# Altium integrated library Linear Technology Power Management Power-Over-Ethernet (PoE) Interface Controllers.IntLib: 174 symbols (part 2 of 16)
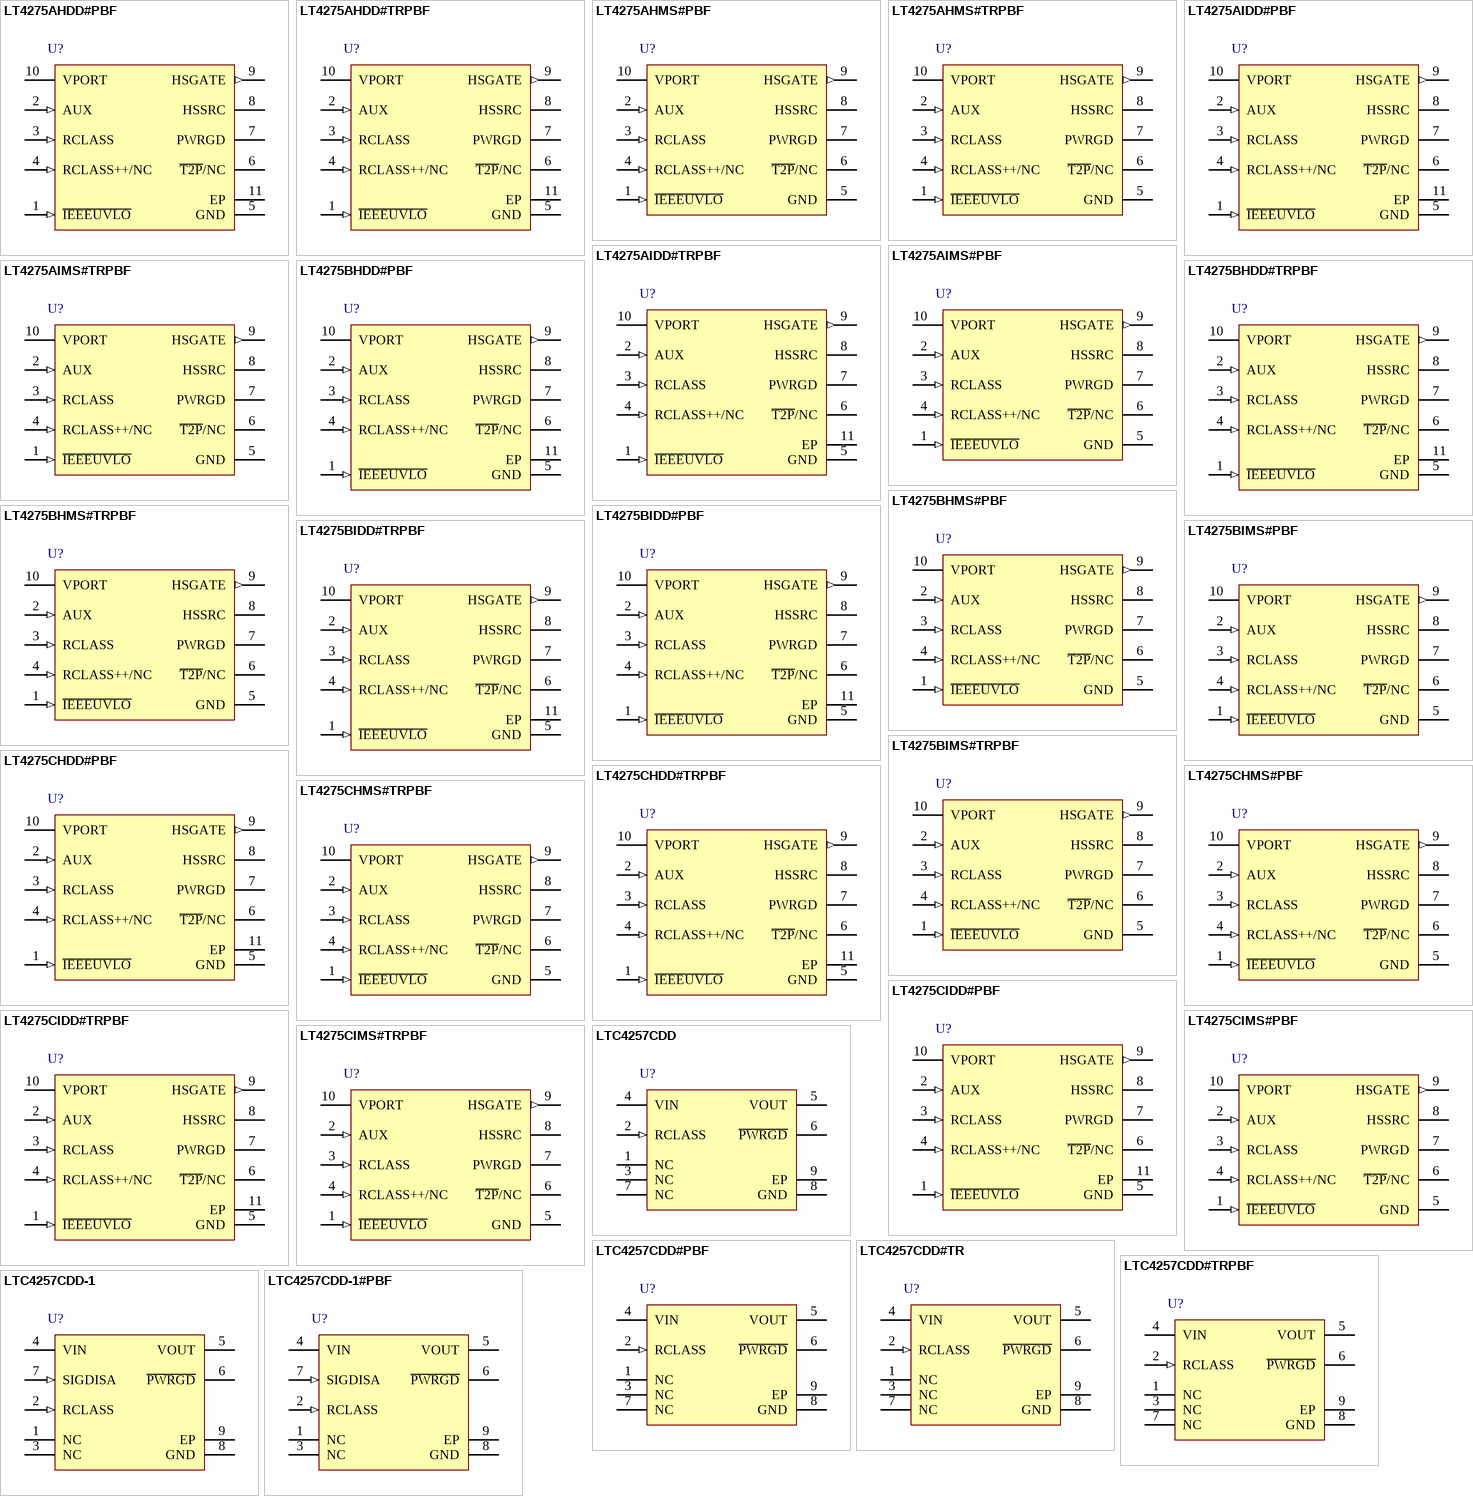
[diagram p9: symbols LT4275AHDD#PBF to LTC4257CDD-1#PBF]

## LT4275CHMS#PBF
designator U?
LTPoE++ / PoE+ / PoE PD Controller, 10-pin SOP (MS-10), -40 to 125 degC, Pb-Free; Manufacturer: Linear Technology; PartNumber: LT4275CHMS#PBF; Channels(#): 1; Extended Temp: I, H; Max Power(W): 90; PoE Type: 1, 2, LTPoE++; PackageVersion: Rev. E, 06/2010; PackageReference: MS-10; PackageDescription: 10-Pin Plastic MSOP, Body 3 x 3 mm, Pitch 0.5 mm; Supplier 1: Digi-Key; Supplier Part Number 1: LT4275CHMS#PBF-ND; Supplier 2: Newark; Supplier Part Number 2: 27W9579; PSE/PD: PD; RoHS: TRUE; Mounting Technology: Surface Mount; ComponentLink1Description: Manufacturer URL; ComponentLink1URL: http://www.linear.com/; ComponentLink2Description: Datasheet; ComponentLink2URL: http://cds.linear.com/docs/en/datasheet/4275f.pdf; ComponentLink3Description: Package Specification; ComponentLink3URL: http://cds.linear.com/docs/en/packaging/05081661_F_MS.pdf
footprint LT-MS-10_N (SOP, 10-Leads, Body 3.1x3.1mm, Pitch 0.5mm, IPC Medium Density)
footprint LT-MS-10_L (SOP, 10-Leads, Body 3.1x3.1mm, Pitch 0.5mm, IPC High Density)
footprint LT-MS-10_M (SOP, 10-Leads, Body 3.1x3.1mm, Pitch 0.5mm, IPC Low Density)
pins: 1 ~{IEEEUVLO} (in) "IEEEUVLO (Pin 1): Hot Swap Turn-on Threshold Level Control. Connect to ground for IEEE compliant turn-on and turn-off (UVLO) voltage thresholds. Leave open for lower turn-on and turn-off voltage thresholds.", 2 AUX (in) "AUX (Pin 2): Auxiliary Sense. Assert AUX via a resistive divider from the auxiliary power input to set the voltage at which the auxiliary supply takes over. Asserting AUX pulls down HSGATE, disconnects the signature (See Datasheet)", 3 RCLASS (in) "RCLASS (Pin 3): Programmable PoE Classification Resistor. See Table 1.", 4 RCLASS++/NC (in) "RCLASS++ (Pin 4, LT4275A Only): Programmable LTPoE++ Classification Resistor. This pin is not connected on the LT4275B/LT4275C. See Table 1.", 5 GND (power) "GND (Pin 5): Ground Pin. Must be soldered to PCB GND.", 6 ~{T2P}/NC (oc) "T\2\P\ (Pin 6, LT4275A/LT4275B Only): PSE Type Indicator, Open-Drain Output. T\2\P\ floats for a 13W PSE. T\2\P\ pulls down for a 25.5W PSE. T\2\P\ pulls down at fT\2\P\ with a 50% (typical) duty cycle to indicate the (See Datasheet)", 7 PWRGD (oc) "PWRGD (Pin 7): Power Good Indicator, Open-Drain Output. Pulls down during VCLASS and inrush.", 8 HSSRC "HSSRC (Pin 8): External Hot Swap MOSFET Source. Connect to source of the external MOSFET.", 9 HSGATE (out) "HSGATE (Pin 9): External Hot Swap MOSFET Gate Control, Output. Connect to gate of the external MOSFET.", 10 VPORT (power) "VPORT (Pin 10): PD interface upper power rail and external Hot Swap MOSFET drain connection."

## LT4275CHMS#TRPBF
designator U?
LTPoE++ / PoE+ / PoE PD Controller, 10-pin SOP (MS-10), -40 to 125 degC, Pb-Free, Tape and Reel; Manufacturer: Linear Technology; PartNumber: LT4275CHMS#TRPBF; Channels(#): 1; Extended Temp: I, H; Max Power(W): 90; PoE Type: 1, 2, LTPoE++; PackageVersion: Rev. E, 06/2010; PackageReference: MS-10; PackageDescription: 10-Pin Plastic MSOP, Body 3 x 3 mm, Pitch 0.5 mm; Supplier 1: Digi-Key; Supplier Part Number 1: LT4275CHMS#TRPBF-ND; Supplier 2: Newark; Supplier Part Number 2: 27W9580; Packing: Tape and Reel; PSE/PD: PD; RoHS: TRUE; Mounting Technology: Surface Mount; ComponentLink1Description: Manufacturer URL; ComponentLink1URL: http://www.linear.com/; ComponentLink2Description: Datasheet; ComponentLink2URL: http://cds.linear.com/docs/en/datasheet/4275f.pdf; ComponentLink3Description: Package Specification; ComponentLink3URL: http://cds.linear.com/docs/en/packaging/05081661_F_MS.pdf
footprint LT-MS-10_N (SOP, 10-Leads, Body 3.1x3.1mm, Pitch 0.5mm, IPC Medium Density)
footprint LT-MS-10_L (SOP, 10-Leads, Body 3.1x3.1mm, Pitch 0.5mm, IPC High Density)
footprint LT-MS-10_M (SOP, 10-Leads, Body 3.1x3.1mm, Pitch 0.5mm, IPC Low Density)
pins: 1 ~{IEEEUVLO} (in) "IEEEUVLO (Pin 1): Hot Swap Turn-on Threshold Level Control. Connect to ground for IEEE compliant turn-on and turn-off (UVLO) voltage thresholds. Leave open for lower turn-on and turn-off voltage thresholds.", 2 AUX (in) "AUX (Pin 2): Auxiliary Sense. Assert AUX via a resistive divider from the auxiliary power input to set the voltage at which the auxiliary supply takes over. Asserting AUX pulls down HSGATE, disconnects the signature (See Datasheet)", 3 RCLASS (in) "RCLASS (Pin 3): Programmable PoE Classification Resistor. See Table 1.", 4 RCLASS++/NC (in) "RCLASS++ (Pin 4, LT4275A Only): Programmable LTPoE++ Classification Resistor. This pin is not connected on the LT4275B/LT4275C. See Table 1.", 5 GND (power) "GND (Pin 5): Ground Pin. Must be soldered to PCB GND.", 6 ~{T2P}/NC (oc) "T\2\P\ (Pin 6, LT4275A/LT4275B Only): PSE Type Indicator, Open-Drain Output. T\2\P\ floats for a 13W PSE. T\2\P\ pulls down for a 25.5W PSE. T\2\P\ pulls down at fT\2\P\ with a 50% (typical) duty cycle to indicate the (See Datasheet)", 7 PWRGD (oc) "PWRGD (Pin 7): Power Good Indicator, Open-Drain Output. Pulls down during VCLASS and inrush.", 8 HSSRC "HSSRC (Pin 8): External Hot Swap MOSFET Source. Connect to source of the external MOSFET.", 9 HSGATE (out) "HSGATE (Pin 9): External Hot Swap MOSFET Gate Control, Output. Connect to gate of the external MOSFET.", 10 VPORT (power) "VPORT (Pin 10): PD interface upper power rail and external Hot Swap MOSFET drain connection."

## LT4275CIDD#PBF
designator U?
LTPoE++ / PoE+ / PoE PD Controller, 10-pin SON (DD-10), -40 to 85 degC, Pb-Free; Manufacturer: Linear Technology; PartNumber: LT4275CIDD#PBF; Channels(#): 1; Extended Temp: I, H; Max Power(W): 90; PoE Type: 1, 2, LTPoE++; PackageVersion: Rev. C, 06/2010; PackageReference: DD-10; PackageDescription: 10-Pin Plastic DFN, Body 3 x 3 mm, Pitch 0.5 mm; Supplier 1: Digi-Key; Supplier Part Number 1: LT4275CIDD#PBF-ND; Supplier 2: Newark; Supplier Part Number 2: 27W9581; PSE/PD: PD; RoHS: TRUE; Mounting Technology: Surface Mount; Code_JEDEC: MO-229; ComponentLink1Description: Manufacturer URL; ComponentLink1URL: http://www.linear.com/; ComponentLink2Description: Datasheet; ComponentLink2URL: http://cds.linear.com/docs/en/datasheet/4275f.pdf; ComponentLink3Description: Package Specification; ComponentLink3URL: http://cds.linear.com/docs/en/packaging/DFN_10_05-08-1699.pdf
footprint LT-DD-10_V (SON, 10-Leads, Body 3x3mm, Pitch 0.5mm, Thermal Pad 2.38x1.65mm)
pins: 1 ~{IEEEUVLO} (in) "I\E\E\E\U\V\L\O\ (Pin 1): Hot Swap Turn-on Threshold Level Control. Connect to ground for IEEE compliant turn-on and turn-off (UVLO) voltage thresholds. Leave open for lower turn-on and turn-off voltage thresholds.", 2 AUX (in) "AUX (Pin 2): Auxiliary Sense. Assert AUX via a resistive divider from the auxiliary power input to set the voltage at which the auxiliary supply takes over. Asserting AUX pulls down HSGATE, disconnects the signature (See Datasheet)", 3 RCLASS (in) "RCLASS (Pin 3): Programmable PoE Classification Resistor. See Table 1.", 4 RCLASS++/NC (in) "RCLASS++ (Pin 4, LT4275A Only): Programmable LTPoE++ Classification Resistor. This pin is not connected on the LT4275B/LT4275C. See Table 1.", 5 GND (power) "GND (Pin 5): Ground Pin. Must be soldered to PCB GND.", 6 ~{T2P}/NC (oc) "T\2\P\ (Pin 6, LT4275A/LT4275B Only): PSE Type Indicator, Open-Drain Output. T\2\P\ floats for a 13W PSE. T\2\P\ pulls down for a 25.5W PSE. T\2\P\ pulls down at fT\2\P\ with a 50% (typical) duty cycle to indicate the (See Datasheet)", 7 PWRGD (oc) "PWRGD (Pin 7): Power Good Indicator, Open-Drain Output. Pulls down during VCLASS and inrush.", 8 HSSRC "HSSRC (Pin 8): External Hot Swap MOSFET Source. Connect to source of the external MOSFET.", 9 HSGATE (out) "HSGATE (Pin 9): External Hot Swap MOSFET Gate Control, Output. Connect to gate of the external MOSFET.", 10 VPORT (power) "VPORT (Pin 10): PD interface upper power rail and external Hot Swap MOSFET drain connection.", 11 EP (power) "Exposed Pad (Pin 11, DFN Package Only): GND. Must be soldered to PCB GND."

## LT4275CIDD#TRPBF
designator U?
LTPoE++ / PoE+ / PoE PD Controller, 10-pin SON (DD-10), -40 to 85 degC, Pb-Free, Tape and Reel; Manufacturer: Linear Technology; PartNumber: LT4275CIDD#TRPBF; Channels(#): 1; Extended Temp: I, H; Max Power(W): 90; PoE Type: 1, 2, LTPoE++; PackageVersion: Rev. C, 06/2010; PackageReference: DD-10; PackageDescription: 10-Pin Plastic DFN, Body 3 x 3 mm, Pitch 0.5 mm; Supplier 1: Digi-Key; Supplier Part Number 1: LT4275CIDD#TRPBF-ND; Supplier 2: Newark; Supplier Part Number 2: 27W9582; Packing: Tape and Reel; PSE/PD: PD; RoHS: TRUE; Mounting Technology: Surface Mount; Code_JEDEC: MO-229; ComponentLink1Description: Manufacturer URL; ComponentLink1URL: http://www.linear.com/; ComponentLink2Description: Datasheet; ComponentLink2URL: http://cds.linear.com/docs/en/datasheet/4275f.pdf; ComponentLink3Description: Package Specification; ComponentLink3URL: http://cds.linear.com/docs/en/packaging/DFN_10_05-08-1699.pdf
footprint LT-DD-10_V (SON, 10-Leads, Body 3x3mm, Pitch 0.5mm, Thermal Pad 2.38x1.65mm)
pins: 1 ~{IEEEUVLO} (in) "I\E\E\E\U\V\L\O\ (Pin 1): Hot Swap Turn-on Threshold Level Control. Connect to ground for IEEE compliant turn-on and turn-off (UVLO) voltage thresholds. Leave open for lower turn-on and turn-off voltage thresholds.", 2 AUX (in) "AUX (Pin 2): Auxiliary Sense. Assert AUX via a resistive divider from the auxiliary power input to set the voltage at which the auxiliary supply takes over. Asserting AUX pulls down HSGATE, disconnects the signature (See Datasheet)", 3 RCLASS (in) "RCLASS (Pin 3): Programmable PoE Classification Resistor. See Table 1.", 4 RCLASS++/NC (in) "RCLASS++ (Pin 4, LT4275A Only): Programmable LTPoE++ Classification Resistor. This pin is not connected on the LT4275B/LT4275C. See Table 1.", 5 GND (power) "GND (Pin 5): Ground Pin. Must be soldered to PCB GND.", 6 ~{T2P}/NC (oc) "T\2\P\ (Pin 6, LT4275A/LT4275B Only): PSE Type Indicator, Open-Drain Output. T\2\P\ floats for a 13W PSE. T\2\P\ pulls down for a 25.5W PSE. T\2\P\ pulls down at fT\2\P\ with a 50% (typical) duty cycle to indicate the (See Datasheet)", 7 PWRGD (oc) "PWRGD (Pin 7): Power Good Indicator, Open-Drain Output. Pulls down during VCLASS and inrush.", 8 HSSRC "HSSRC (Pin 8): External Hot Swap MOSFET Source. Connect to source of the external MOSFET.", 9 HSGATE (out) "HSGATE (Pin 9): External Hot Swap MOSFET Gate Control, Output. Connect to gate of the external MOSFET.", 10 VPORT (power) "VPORT (Pin 10): PD interface upper power rail and external Hot Swap MOSFET drain connection.", 11 EP (power) "Exposed Pad (Pin 11, DFN Package Only): GND. Must be soldered to PCB GND."

## LT4275CIMS#PBF
designator U?
LTPoE++ / PoE+ / PoE PD Controller, 10-pin SOP (MS-10), -40 to 85 degC, Pb-Free; Manufacturer: Linear Technology; PartNumber: LT4275CIMS#PBF; Channels(#): 1; Extended Temp: I, H; Max Power(W): 90; PoE Type: 1, 2, LTPoE++; PackageVersion: Rev. E, 06/2010; PackageReference: MS-10; PackageDescription: 10-Pin Plastic MSOP, Body 3 x 3 mm, Pitch 0.5 mm; Supplier 1: Digi-Key; Supplier Part Number 1: LT4275CIMS#PBF-ND; Supplier 2: Newark; Supplier Part Number 2: 27W9583; PSE/PD: PD; RoHS: TRUE; Mounting Technology: Surface Mount; ComponentLink1Description: Manufacturer URL; ComponentLink1URL: http://www.linear.com/; ComponentLink2Description: Datasheet; ComponentLink2URL: http://cds.linear.com/docs/en/datasheet/4275f.pdf; ComponentLink3Description: Package Specification; ComponentLink3URL: http://cds.linear.com/docs/en/packaging/05081661_F_MS.pdf
footprint LT-MS-10_N (SOP, 10-Leads, Body 3.1x3.1mm, Pitch 0.5mm, IPC Medium Density)
footprint LT-MS-10_L (SOP, 10-Leads, Body 3.1x3.1mm, Pitch 0.5mm, IPC High Density)
footprint LT-MS-10_M (SOP, 10-Leads, Body 3.1x3.1mm, Pitch 0.5mm, IPC Low Density)
pins: 1 ~{IEEEUVLO} (in) "IEEEUVLO (Pin 1): Hot Swap Turn-on Threshold Level Control. Connect to ground for IEEE compliant turn-on and turn-off (UVLO) voltage thresholds. Leave open for lower turn-on and turn-off voltage thresholds.", 2 AUX (in) "AUX (Pin 2): Auxiliary Sense. Assert AUX via a resistive divider from the auxiliary power input to set the voltage at which the auxiliary supply takes over. Asserting AUX pulls down HSGATE, disconnects the signature (See Datasheet)", 3 RCLASS (in) "RCLASS (Pin 3): Programmable PoE Classification Resistor. See Table 1.", 4 RCLASS++/NC (in) "RCLASS++ (Pin 4, LT4275A Only): Programmable LTPoE++ Classification Resistor. This pin is not connected on the LT4275B/LT4275C. See Table 1.", 5 GND (power) "GND (Pin 5): Ground Pin. Must be soldered to PCB GND.", 6 ~{T2P}/NC (oc) "T\2\P\ (Pin 6, LT4275A/LT4275B Only): PSE Type Indicator, Open-Drain Output. T\2\P\ floats for a 13W PSE. T\2\P\ pulls down for a 25.5W PSE. T\2\P\ pulls down at fT\2\P\ with a 50% (typical) duty cycle to indicate the (See Datasheet)", 7 PWRGD (oc) "PWRGD (Pin 7): Power Good Indicator, Open-Drain Output. Pulls down during VCLASS and inrush.", 8 HSSRC "HSSRC (Pin 8): External Hot Swap MOSFET Source. Connect to source of the external MOSFET.", 9 HSGATE (out) "HSGATE (Pin 9): External Hot Swap MOSFET Gate Control, Output. Connect to gate of the external MOSFET.", 10 VPORT (power) "VPORT (Pin 10): PD interface upper power rail and external Hot Swap MOSFET drain connection."

## LT4275CIMS#TRPBF
designator U?
LTPoE++ / PoE+ / PoE PD Controller, 10-pin SOP (MS-10), -40 to 85 degC, Pb-Free, Tape and Reel; Manufacturer: Linear Technology; PartNumber: LT4275CIMS#TRPBF; Channels(#): 1; Extended Temp: I, H; Max Power(W): 90; PoE Type: 1, 2, LTPoE++; PackageVersion: Rev. E, 06/2010; PackageReference: MS-10; PackageDescription: 10-Pin Plastic MSOP, Body 3 x 3 mm, Pitch 0.5 mm; Supplier 1: Digi-Key; Supplier Part Number 1: LT4275CIMS#TRPBF-ND; Supplier 2: Newark; Supplier Part Number 2: 27W9584; Packing: Tape and Reel; PSE/PD: PD; RoHS: TRUE; Mounting Technology: Surface Mount; ComponentLink1Description: Manufacturer URL; ComponentLink1URL: http://www.linear.com/; ComponentLink2Description: Datasheet; ComponentLink2URL: http://cds.linear.com/docs/en/datasheet/4275f.pdf; ComponentLink3Description: Package Specification; ComponentLink3URL: http://cds.linear.com/docs/en/packaging/05081661_F_MS.pdf
footprint LT-MS-10_N (SOP, 10-Leads, Body 3.1x3.1mm, Pitch 0.5mm, IPC Medium Density)
footprint LT-MS-10_L (SOP, 10-Leads, Body 3.1x3.1mm, Pitch 0.5mm, IPC High Density)
footprint LT-MS-10_M (SOP, 10-Leads, Body 3.1x3.1mm, Pitch 0.5mm, IPC Low Density)
pins: 1 ~{IEEEUVLO} (in) "IEEEUVLO (Pin 1): Hot Swap Turn-on Threshold Level Control. Connect to ground for IEEE compliant turn-on and turn-off (UVLO) voltage thresholds. Leave open for lower turn-on and turn-off voltage thresholds.", 2 AUX (in) "AUX (Pin 2): Auxiliary Sense. Assert AUX via a resistive divider from the auxiliary power input to set the voltage at which the auxiliary supply takes over. Asserting AUX pulls down HSGATE, disconnects the signature (See Datasheet)", 3 RCLASS (in) "RCLASS (Pin 3): Programmable PoE Classification Resistor. See Table 1.", 4 RCLASS++/NC (in) "RCLASS++ (Pin 4, LT4275A Only): Programmable LTPoE++ Classification Resistor. This pin is not connected on the LT4275B/LT4275C. See Table 1.", 5 GND (power) "GND (Pin 5): Ground Pin. Must be soldered to PCB GND.", 6 ~{T2P}/NC (oc) "T\2\P\ (Pin 6, LT4275A/LT4275B Only): PSE Type Indicator, Open-Drain Output. T\2\P\ floats for a 13W PSE. T\2\P\ pulls down for a 25.5W PSE. T\2\P\ pulls down at fT\2\P\ with a 50% (typical) duty cycle to indicate the (See Datasheet)", 7 PWRGD (oc) "PWRGD (Pin 7): Power Good Indicator, Open-Drain Output. Pulls down during VCLASS and inrush.", 8 HSSRC "HSSRC (Pin 8): External Hot Swap MOSFET Source. Connect to source of the external MOSFET.", 9 HSGATE (out) "HSGATE (Pin 9): External Hot Swap MOSFET Gate Control, Output. Connect to gate of the external MOSFET.", 10 VPORT (power) "VPORT (Pin 10): PD interface upper power rail and external Hot Swap MOSFET drain connection."

## LTC4257CDD
designator U?
IEEE 802.3af PD Power Over Ethernet Interface Controller, 8-pin SON (DD-8), 0 to 70 degC; Manufacturer: Linear Technology; PartNumber: LTC4257CDD; Channels(#): 1; Extended Temp: C, I; I2C Interface: no; Max Power(W): 13; DatasheetVersion: Rev. B; PackageVersion: Jun-10; PackageReference: DD-8; PackageDescription: 8-Pin Plastic DFN, Body 3 x 3 mm, Pitch 0.5 mm; Supplier 1: Digi-Key; Supplier Part Number 1: LTC4257CDD-ND; PoE Type: 1; PSE/PD: PD; RoHS: FALSE; Mounting Technology: Surface Mount; Code_JEDEC: MO-229; ComponentLink1Description: Manufacturer URL; ComponentLink1URL: http://www.linear.com/; ComponentLink2Description: Datasheet; ComponentLink2URL: http://cds.linear.com/docs/en/datasheet/4257fb.pdf; ComponentLink3Description: Package Specification; ComponentLink3URL: http://cds.linear.com/docs/en/packaging/DFN_8_05-08-1698.pdf
footprint LT-DD-8_V (SON, 8-Leads, Body 3x3mm, Pitch 0.5mm, Thermal Pad 1.65x2.38 mm)
pins: 1 NC "No Connect.", 2 RCLASS (in) "External Class Select Input. Used to set the current the LTC4257 maintains during classification. Connect a resistor between RCLASS and VIN (see Table 2).", 3 NC "No Connect.", 4 VIN (power) "Power Input. Tie to system -48V through the input diode bridge.", 5 VOUT (hiz) "Power Output. Supplies -48V to the PD load through an internal power MOSFET that limits input current. VOUT is high impedance until the input voltage rises above the turn-on UVLO threshold. Above the UVLO threshold the (See Datasheet)", 6 ~{PWRGD} (hiz) "Power Good Output, Open-Drain. Signals that the LTC4257 MOSFET is fully on. Low impedance indicates power is good. P\W\R\G\D\ is high impedance during detection, classification and in the event of a thermal overload. (See Datasheet)", 7 NC "No Connect.", 8 GND (power) "Ground. Tie to system ground and to power return through the input diode bridge.", 9 EP

## LTC4257CDD#PBF
designator U?
IEEE 802.3af PD Power Over Ethernet Interface Controller, 8-pin SON (DD-8), 0 to 70 degC, Pb-Free; Manufacturer: Linear Technology; PartNumber: LTC4257CDD#PBF; Channels(#): 1; Extended Temp: C, I; I2C Interface: no; Max Power(W): 13; DatasheetVersion: Rev. B; PackageVersion: Jun-10; PackageReference: DD-8; PackageDescription: 8-Pin Plastic DFN, Body 3 x 3 mm, Pitch 0.5 mm; Supplier 1: Digi-Key; Supplier Part Number 1: LTC4257CDD#PBF-ND; PoE Type: 1; PSE/PD: PD; RoHS: TRUE; Mounting Technology: Surface Mount; Code_JEDEC: MO-229; ComponentLink1Description: Manufacturer URL; ComponentLink1URL: http://www.linear.com/; ComponentLink2Description: Datasheet; ComponentLink2URL: http://cds.linear.com/docs/en/datasheet/4257fb.pdf; ComponentLink3Description: Package Specification; ComponentLink3URL: http://cds.linear.com/docs/en/packaging/DFN_8_05-08-1698.pdf
footprint LT-DD-8_V (SON, 8-Leads, Body 3x3mm, Pitch 0.5mm, Thermal Pad 1.65x2.38 mm)
pins: 1 NC "No Connect.", 2 RCLASS (in) "External Class Select Input. Used to set the current the LTC4257 maintains during classification. Connect a resistor between RCLASS and VIN (see Table 2).", 3 NC "No Connect.", 4 VIN (power) "Power Input. Tie to system -48V through the input diode bridge.", 5 VOUT (hiz) "Power Output. Supplies -48V to the PD load through an internal power MOSFET that limits input current. VOUT is high impedance until the input voltage rises above the turn-on UVLO threshold. Above the UVLO threshold the (See Datasheet)", 6 ~{PWRGD} (hiz) "Power Good Output, Open-Drain. Signals that the LTC4257 MOSFET is fully on. Low impedance indicates power is good. P\W\R\G\D\ is high impedance during detection, classification and in the event of a thermal overload. (See Datasheet)", 7 NC "No Connect.", 8 GND (power) "Ground. Tie to system ground and to power return through the input diode bridge.", 9 EP

## LTC4257CDD#TR
designator U?
IEEE 802.3af PD Power Over Ethernet Interface Controller, 8-pin SON (DD-8), 0 to 70 degC, Tape and Reel; Manufacturer: Linear Technology; PartNumber: LTC4257CDD#TR; Channels(#): 1; Extended Temp: C, I; I2C Interface: no; Max Power(W): 13; DatasheetVersion: Rev. B; PackageVersion: Jun-10; PackageReference: DD-8; PackageDescription: 8-Pin Plastic DFN, Body 3 x 3 mm, Pitch 0.5 mm; Supplier 1: Digi-Key; Supplier Part Number 1: LTC4257CDD#TR-ND; Packing: Tape and Reel; PoE Type: 1; PSE/PD: PD; RoHS: FALSE; Mounting Technology: Surface Mount; Code_JEDEC: MO-229; ComponentLink1Description: Manufacturer URL; ComponentLink1URL: http://www.linear.com/; ComponentLink2Description: Datasheet; ComponentLink2URL: http://cds.linear.com/docs/en/datasheet/4257fb.pdf; ComponentLink3Description: Package Specification; ComponentLink3URL: http://cds.linear.com/docs/en/packaging/DFN_8_05-08-1698.pdf
footprint LT-DD-8_V (SON, 8-Leads, Body 3x3mm, Pitch 0.5mm, Thermal Pad 1.65x2.38 mm)
pins: 1 NC "No Connect.", 2 RCLASS (in) "External Class Select Input. Used to set the current the LTC4257 maintains during classification. Connect a resistor between RCLASS and VIN (see Table 2).", 3 NC "No Connect.", 4 VIN (power) "Power Input. Tie to system -48V through the input diode bridge.", 5 VOUT (hiz) "Power Output. Supplies -48V to the PD load through an internal power MOSFET that limits input current. VOUT is high impedance until the input voltage rises above the turn-on UVLO threshold. Above the UVLO threshold the (See Datasheet)", 6 ~{PWRGD} (hiz) "Power Good Output, Open-Drain. Signals that the LTC4257 MOSFET is fully on. Low impedance indicates power is good. P\W\R\G\D\ is high impedance during detection, classification and in the event of a thermal overload. (See Datasheet)", 7 NC "No Connect.", 8 GND (power) "Ground. Tie to system ground and to power return through the input diode bridge.", 9 EP

## LTC4257CDD#TRPBF
designator U?
IEEE 802.3af PD Power Over Ethernet Interface Controller, 8-pin SON (DD-8), 0 to 70 degC, Pb-Free, Tape and Reel; Manufacturer: Linear Technology; PartNumber: LTC4257CDD#TRPBF; Channels(#): 1; Extended Temp: C, I; I2C Interface: no; Max Power(W): 13; DatasheetVersion: Rev. B; PackageVersion: Jun-10; PackageReference: DD-8; PackageDescription: 8-Pin Plastic DFN, Body 3 x 3 mm, Pitch 0.5 mm; Supplier 1: Digi-Key; Supplier Part Number 1: LTC4257CDD#TRPBF-ND; Packing: Tape and Reel; PoE Type: 1; PSE/PD: PD; RoHS: TRUE; Mounting Technology: Surface Mount; Code_JEDEC: MO-229; ComponentLink1Description: Manufacturer URL; ComponentLink1URL: http://www.linear.com/; ComponentLink2Description: Datasheet; ComponentLink2URL: http://cds.linear.com/docs/en/datasheet/4257fb.pdf; ComponentLink3Description: Package Specification; ComponentLink3URL: http://cds.linear.com/docs/en/packaging/DFN_8_05-08-1698.pdf
footprint LT-DD-8_V (SON, 8-Leads, Body 3x3mm, Pitch 0.5mm, Thermal Pad 1.65x2.38 mm)
pins: 1 NC "No Connect.", 2 RCLASS (in) "External Class Select Input. Used to set the current the LTC4257 maintains during classification. Connect a resistor between RCLASS and VIN (see Table 2).", 3 NC "No Connect.", 4 VIN (power) "Power Input. Tie to system -48V through the input diode bridge.", 5 VOUT (hiz) "Power Output. Supplies -48V to the PD load through an internal power MOSFET that limits input current. VOUT is high impedance until the input voltage rises above the turn-on UVLO threshold. Above the UVLO threshold the (See Datasheet)", 6 ~{PWRGD} (hiz) "Power Good Output, Open-Drain. Signals that the LTC4257 MOSFET is fully on. Low impedance indicates power is good. P\W\R\G\D\ is high impedance during detection, classification and in the event of a thermal overload. (See Datasheet)", 7 NC "No Connect.", 8 GND (power) "Ground. Tie to system ground and to power return through the input diode bridge.", 9 EP

## LTC4257CDD-1
designator U?
IEEE 802.3af PD Power Over Ethernet Interface Controller with Dual Current Limit, 8-pin SON (DD-8), 0 to 70 degC; Manufacturer: Linear Technology; PartNumber: LTC4257CDD-1; Channels(#): 1; Extended Temp: C, I; I2C Interface: no; Max Power(W): 13; DatasheetVersion: Rev. B; PackageVersion: Jun-10; PackageReference: DD-8; PackageDescription: 8-Pin Plastic DFN, Body 3 x 3 mm, Pitch 0.5 mm; Supplier 1: Digi-Key; Supplier Part Number 1: LTC4257CDD-1-ND; PoE Type: 1; PSE/PD: PD; RoHS: FALSE; Mounting Technology: Surface Mount; Code_JEDEC: MO-229; ComponentLink1Description: Manufacturer URL; ComponentLink1URL: http://www.linear.com/; ComponentLink2Description: Datasheet; ComponentLink2URL: http://cds.linear.com/docs/en/datasheet/42571fb.pdf; ComponentLink3Description: Package Specification; ComponentLink3URL: http://cds.linear.com/docs/en/packaging/DFN_8_05-08-1698.pdf
footprint LT-DD-8_V (SON, 8-Leads, Body 3x3mm, Pitch 0.5mm, Thermal Pad 1.65x2.38 mm)
pins: 1 NC "No Internal Connection.", 2 RCLASS (in) "Class Select Input. Used to set the current value the LTC4257-1 maintains during classification. Connect a resistor between RCLASS and VIN (see Table 2).", 3 NC "No Internal Connection.", 4 VIN (power) "Power Input. Tie to system - 48V through the input diode bridge.", 5 VOUT (hiz) "Power Output. Supplies -48V to the PD load through an internal power MOSFET that limits input current. VOUT is high impedance until the input voltage rises above the turn-on UVLO threshold. Above the UVLO threshold the (See Datasheet)", 6 ~{PWRGD} (hiz) "Power Good Output, Open-Drain. Signals that the LTC4257-1 MOSFET is fully on. Low impedance indicates power is good. P\W\R\G\D\ is high impedance during detection, classification and in the event of a thermal overload. (See Datasheet)", 7 SIGDISA (in) "Signature Disable Input. Allows the PD to command the LTC4257-1 to present an invalid signature resistance and to remain inactive. Connecting SIGDISA to GND lowers the signature resistance to an invalid value and disables (See Datasheet)", 8 GND (power) "Ground. Tie to system ground and to power return through the input diode bridge.", 9 EP

## LTC4257CDD-1#PBF
designator U?
IEEE 802.3af PD Power Over Ethernet Interface Controller with Dual Current Limit, 8-pin SON (DD-8), 0 to 70 degC, Pb-Free; Manufacturer: Linear Technology; PartNumber: LTC4257CDD-1#PBF; Channels(#): 1; Extended Temp: C, I; I2C Interface: no; Max Power(W): 13; DatasheetVersion: Rev. B; PackageVersion: Jun-10; PackageReference: DD-8; PackageDescription: 8-Pin Plastic DFN, Body 3 x 3 mm, Pitch 0.5 mm; Supplier 1: Digi-Key; Supplier Part Number 1: LTC4257CDD-1#PBF-ND; PoE Type: 1; PSE/PD: PD; RoHS: TRUE; Mounting Technology: Surface Mount; Code_JEDEC: MO-229; ComponentLink1Description: Manufacturer URL; ComponentLink1URL: http://www.linear.com/; ComponentLink2Description: Datasheet; ComponentLink2URL: http://cds.linear.com/docs/en/datasheet/42571fb.pdf; ComponentLink3Description: Package Specification; ComponentLink3URL: http://cds.linear.com/docs/en/packaging/DFN_8_05-08-1698.pdf
footprint LT-DD-8_V (SON, 8-Leads, Body 3x3mm, Pitch 0.5mm, Thermal Pad 1.65x2.38 mm)
pins: 1 NC "No Internal Connection.", 2 RCLASS (in) "Class Select Input. Used to set the current value the LTC4257-1 maintains during classification. Connect a resistor between RCLASS and VIN (see Table 2).", 3 NC "No Internal Connection.", 4 VIN (power) "Power Input. Tie to system - 48V through the input diode bridge.", 5 VOUT (hiz) "Power Output. Supplies -48V to the PD load through an internal power MOSFET that limits input current. VOUT is high impedance until the input voltage rises above the turn-on UVLO threshold. Above the UVLO threshold the (See Datasheet)", 6 ~{PWRGD} (hiz) "Power Good Output, Open-Drain. Signals that the LTC4257-1 MOSFET is fully on. Low impedance indicates power is good. P\W\R\G\D\ is high impedance during detection, classification and in the event of a thermal overload. (See Datasheet)", 7 SIGDISA (in) "Signature Disable Input. Allows the PD to command the LTC4257-1 to present an invalid signature resistance and to remain inactive. Connecting SIGDISA to GND lowers the signature resistance to an invalid value and disables (See Datasheet)", 8 GND (power) "Ground. Tie to system ground and to power return through the input diode bridge.", 9 EP

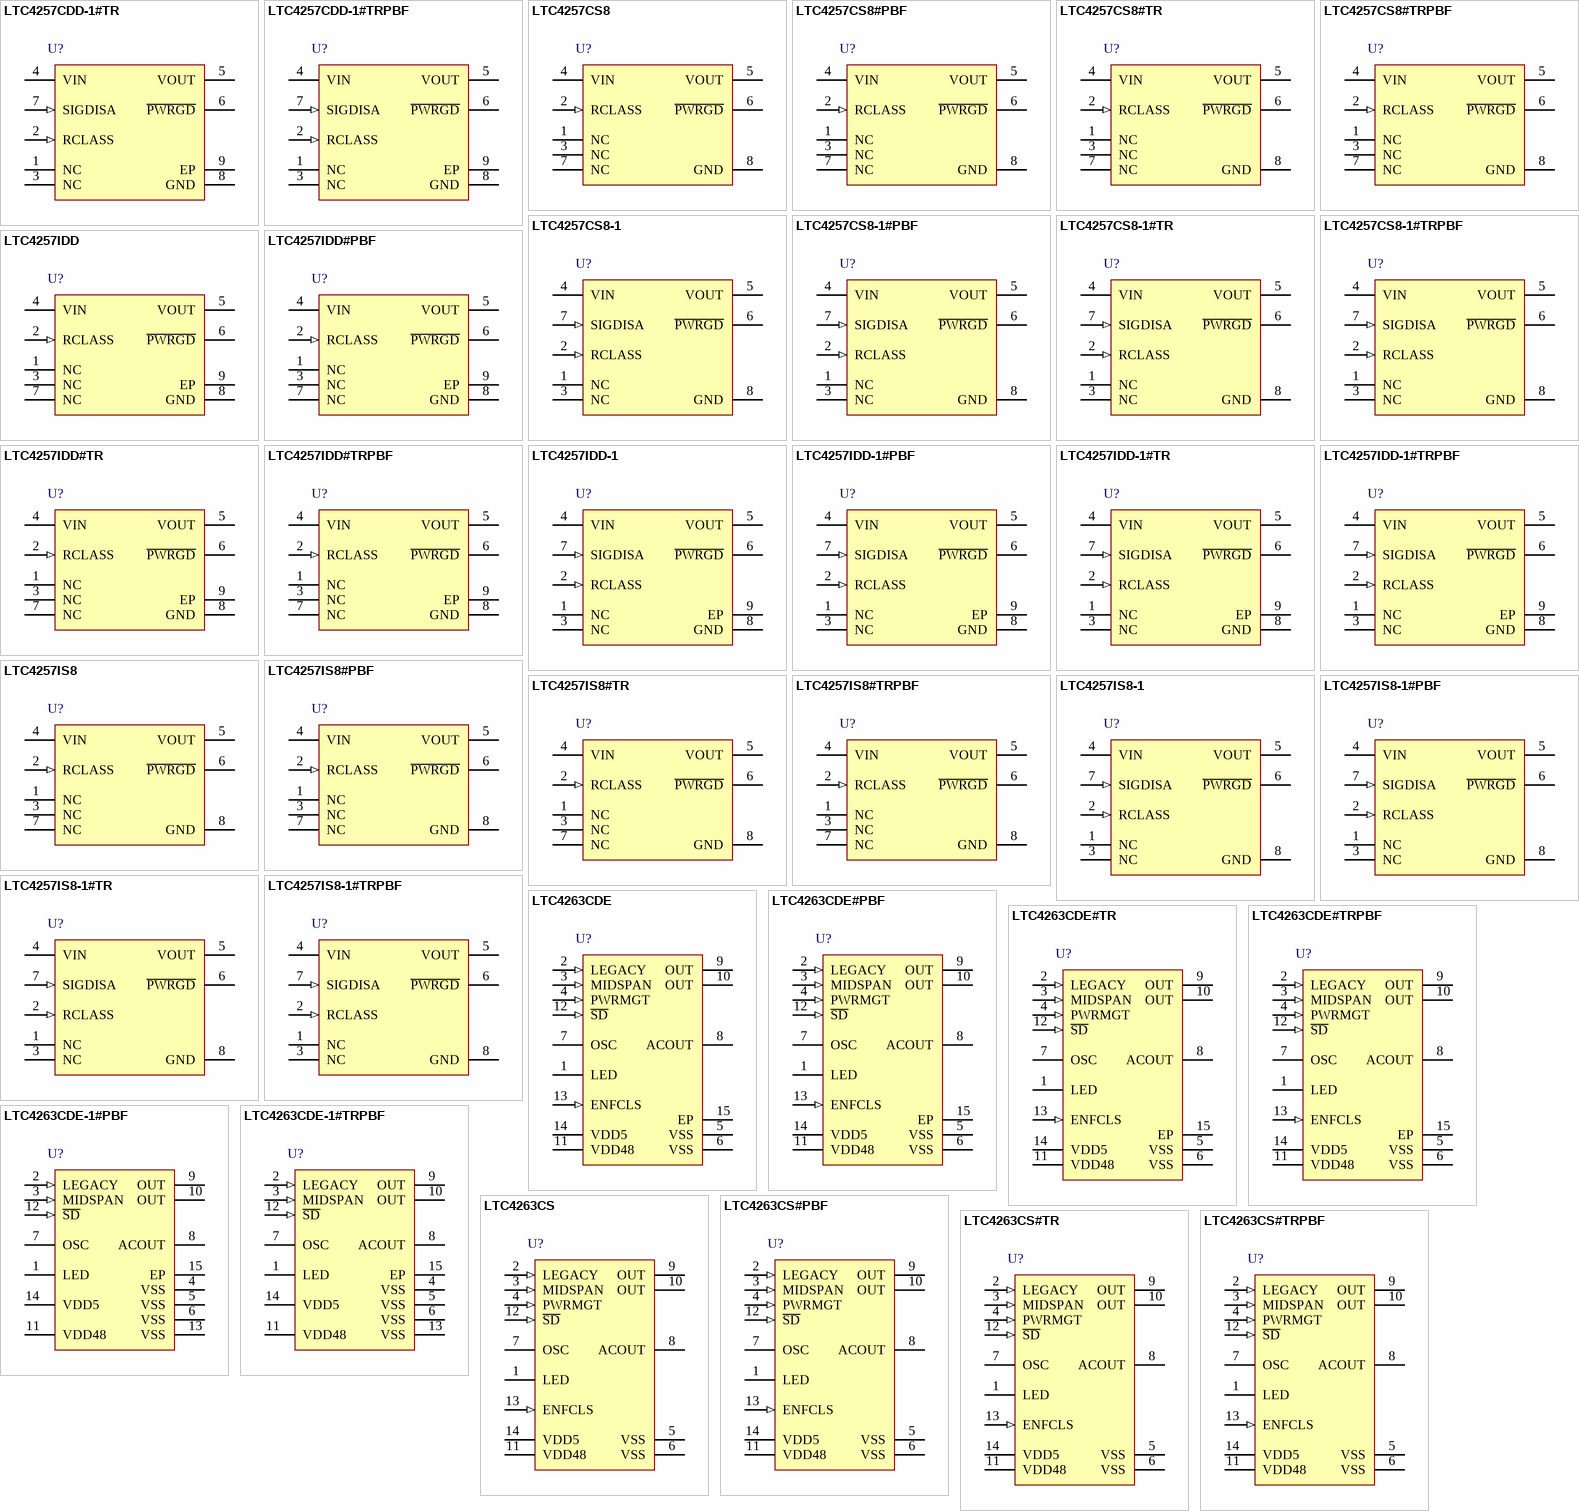
[diagram p1: symbols LTC4257CDD-1#TR to LTC4263CS#TRPBF]

## LTC4257CDD-1#TR
designator U?
IEEE 802.3af PD Power Over Ethernet Interface Controller with Dual Current Limit, 8-pin SON (DD-8), 0 to 70 degC, Tape and Reel; Manufacturer: Linear Technology; PartNumber: LTC4257CDD-1#TR; Channels(#): 1; Extended Temp: C, I; I2C Interface: no; Max Power(W): 13; DatasheetVersion: Rev. B; PackageVersion: Jun-10; PackageReference: DD-8; PackageDescription: 8-Pin Plastic DFN, Body 3 x 3 mm, Pitch 0.5 mm; Supplier 1: Digi-Key; Supplier Part Number 1: LTC4257CDD-1#TR-ND; Packing: Tape and Reel; PoE Type: 1; PSE/PD: PD; RoHS: FALSE; Mounting Technology: Surface Mount; Code_JEDEC: MO-229; ComponentLink1Description: Manufacturer URL; ComponentLink1URL: http://www.linear.com/; ComponentLink2Description: Datasheet; ComponentLink2URL: http://cds.linear.com/docs/en/datasheet/42571fb.pdf; ComponentLink3Description: Package Specification; ComponentLink3URL: http://cds.linear.com/docs/en/packaging/DFN_8_05-08-1698.pdf
footprint LT-DD-8_V (SON, 8-Leads, Body 3x3mm, Pitch 0.5mm, Thermal Pad 1.65x2.38 mm)
pins: 1 NC "No Internal Connection.", 2 RCLASS (in) "Class Select Input. Used to set the current value the LTC4257-1 maintains during classification. Connect a resistor between RCLASS and VIN (see Table 2).", 3 NC "No Internal Connection.", 4 VIN (power) "Power Input. Tie to system - 48V through the input diode bridge.", 5 VOUT (hiz) "Power Output. Supplies -48V to the PD load through an internal power MOSFET that limits input current. VOUT is high impedance until the input voltage rises above the turn-on UVLO threshold. Above the UVLO threshold the (See Datasheet)", 6 ~{PWRGD} (hiz) "Power Good Output, Open-Drain. Signals that the LTC4257-1 MOSFET is fully on. Low impedance indicates power is good. P\W\R\G\D\ is high impedance during detection, classification and in the event of a thermal overload. (See Datasheet)", 7 SIGDISA (in) "Signature Disable Input. Allows the PD to command the LTC4257-1 to present an invalid signature resistance and to remain inactive. Connecting SIGDISA to GND lowers the signature resistance to an invalid value and disables (See Datasheet)", 8 GND (power) "Ground. Tie to system ground and to power return through the input diode bridge.", 9 EP

## LTC4257CDD-1#TRPBF
designator U?
IEEE 802.3af PD Power Over Ethernet Interface Controller with Dual Current Limit, 8-pin SON (DD-8), 0 to 70 degC, Pb-Free, Tape and Reel; Manufacturer: Linear Technology; PartNumber: LTC4257CDD-1#TRPBF; Channels(#): 1; Extended Temp: C, I; I2C Interface: no; Max Power(W): 13; DatasheetVersion: Rev. B; PackageVersion: Jun-10; PackageReference: DD-8; PackageDescription: 8-Pin Plastic DFN, Body 3 x 3 mm, Pitch 0.5 mm; Supplier 1: Digi-Key; Supplier Part Number 1: LTC4257CDD-1#TRPBF-ND; Packing: Tape and Reel; PoE Type: 1; PSE/PD: PD; RoHS: TRUE; Mounting Technology: Surface Mount; Code_JEDEC: MO-229; ComponentLink1Description: Manufacturer URL; ComponentLink1URL: http://www.linear.com/; ComponentLink2Description: Datasheet; ComponentLink2URL: http://cds.linear.com/docs/en/datasheet/42571fb.pdf; ComponentLink3Description: Package Specification; ComponentLink3URL: http://cds.linear.com/docs/en/packaging/DFN_8_05-08-1698.pdf
footprint LT-DD-8_V (SON, 8-Leads, Body 3x3mm, Pitch 0.5mm, Thermal Pad 1.65x2.38 mm)
pins: 1 NC "No Internal Connection.", 2 RCLASS (in) "Class Select Input. Used to set the current value the LTC4257-1 maintains during classification. Connect a resistor between RCLASS and VIN (see Table 2).", 3 NC "No Internal Connection.", 4 VIN (power) "Power Input. Tie to system - 48V through the input diode bridge.", 5 VOUT (hiz) "Power Output. Supplies -48V to the PD load through an internal power MOSFET that limits input current. VOUT is high impedance until the input voltage rises above the turn-on UVLO threshold. Above the UVLO threshold the (See Datasheet)", 6 ~{PWRGD} (hiz) "Power Good Output, Open-Drain. Signals that the LTC4257-1 MOSFET is fully on. Low impedance indicates power is good. P\W\R\G\D\ is high impedance during detection, classification and in the event of a thermal overload. (See Datasheet)", 7 SIGDISA (in) "Signature Disable Input. Allows the PD to command the LTC4257-1 to present an invalid signature resistance and to remain inactive. Connecting SIGDISA to GND lowers the signature resistance to an invalid value and disables (See Datasheet)", 8 GND (power) "Ground. Tie to system ground and to power return through the input diode bridge.", 9 EP

## LTC4257CS8
designator U?
IEEE 802.3af PD Power Over Ethernet Interface Controller, 8-pin SOIC (S8-8), 0 to 70 degC; Manufacturer: Linear Technology; PartNumber: LTC4257CS8; Channels(#): 1; Extended Temp: C, I; I2C Interface: no; Max Power(W): 13; DatasheetVersion: Rev. B; PackageVersion: Rev. G, 03/2012; PackageReference: S8-8; PackageDescription: 8-Pin Plastic Small Outline (Narrow .150 Inch), Body 4.9 x 3.9 mm, Pitch 1.27 mm; Supplier 1: Digi-Key; Supplier Part Number 1: LTC4257CS8-ND; PoE Type: 1; PSE/PD: PD; RoHS: FALSE; Mounting Technology: Surface Mount; ComponentLink1Description: Manufacturer URL; ComponentLink1URL: http://www.linear.com/; ComponentLink2Description: Datasheet; ComponentLink2URL: http://cds.linear.com/docs/en/datasheet/4257fb.pdf; ComponentLink3Description: Package Specification; ComponentLink3URL: http://cds.linear.com/docs/en/packaging/05081610_G_SO8.pdf
footprint LT-S8-8_N (SOIC, 8-Leads, Body 5x4mm, Pitch 1.27mm, IPC Medium Density)
footprint LT-S8-8_L (SOIC, 8-Leads, Body 5x4mm, Pitch 1.27mm, IPC High Density)
footprint LT-S8-8_M (SOIC, 8-Leads, Body 5x4mm, Pitch 1.27mm, IPC Low Density)
pins: 1 NC "No Connect.", 2 RCLASS (in) "External Class Select Input. Used to set the current the LTC4257 maintains during classification. Connect a resistor between RCLASS and VIN (see Table 2).", 3 NC "No Connect.", 4 VIN (power) "Power Input. Tie to system - 48V through the input diode bridge.", 5 VOUT (hiz) "Power Output. Supplies -48V to the PD load through an internal power MOSFET that limits input current. VOUT is high impedance until the input voltage rises above the turn-on UVLO threshold. Above the UVLO threshold the (See Datasheet)", 6 ~{PWRGD} (hiz) "Power Good Output, Open-Drain. Signals that the LTC4257 MOSFET is fully on. Low impedance indicates power is good. P\W\R\G\D\ is high impedance during detection, classification and in the event of a thermal overload. (See Datasheet)", 7 NC "No Connect.", 8 GND (power) "Ground. Tie to system ground and to power return through the input diode bridge."

## LTC4257CS8#PBF
designator U?
IEEE 802.3af PD Power Over Ethernet Interface Controller, 8-pin SOIC (S8-8), 0 to 70 degC, Pb-Free; Manufacturer: Linear Technology; PartNumber: LTC4257CS8#PBF; Channels(#): 1; Extended Temp: C, I; I2C Interface: no; Max Power(W): 13; DatasheetVersion: Rev. B; PackageVersion: Rev. G, 03/2012; PackageReference: S8-8; PackageDescription: 8-Pin Plastic Small Outline (Narrow .150 Inch), Body 4.9 x 3.9 mm, Pitch 1.27 mm; Supplier 1: Digi-Key; Supplier Part Number 1: LTC4257CS8#PBF-ND; Supplier 2: Farnell; Supplier Part Number 2: 1274003; Supplier 3: Newark; Supplier Part Number 3: 56M9072; PoE Type: 1; PSE/PD: PD; RoHS: TRUE; Mounting Technology: Surface Mount; ComponentLink1Description: Manufacturer URL; ComponentLink1URL: http://www.linear.com/; ComponentLink2Description: Datasheet; ComponentLink2URL: http://cds.linear.com/docs/en/datasheet/4257fb.pdf; ComponentLink3Description: Package Specification; ComponentLink3URL: http://cds.linear.com/docs/en/packaging/05081610_G_SO8.pdf
footprint LT-S8-8_N (SOIC, 8-Leads, Body 5x4mm, Pitch 1.27mm, IPC Medium Density)
footprint LT-S8-8_L (SOIC, 8-Leads, Body 5x4mm, Pitch 1.27mm, IPC High Density)
footprint LT-S8-8_M (SOIC, 8-Leads, Body 5x4mm, Pitch 1.27mm, IPC Low Density)
pins: 1 NC "No Connect.", 2 RCLASS (in) "External Class Select Input. Used to set the current the LTC4257 maintains during classification. Connect a resistor between RCLASS and VIN (see Table 2).", 3 NC "No Connect.", 4 VIN (power) "Power Input. Tie to system - 48V through the input diode bridge.", 5 VOUT (hiz) "Power Output. Supplies -48V to the PD load through an internal power MOSFET that limits input current. VOUT is high impedance until the input voltage rises above the turn-on UVLO threshold. Above the UVLO threshold the (See Datasheet)", 6 ~{PWRGD} (hiz) "Power Good Output, Open-Drain. Signals that the LTC4257 MOSFET is fully on. Low impedance indicates power is good. P\W\R\G\D\ is high impedance during detection, classification and in the event of a thermal overload. (See Datasheet)", 7 NC "No Connect.", 8 GND (power) "Ground. Tie to system ground and to power return through the input diode bridge."

## LTC4257CS8#TR
designator U?
IEEE 802.3af PD Power Over Ethernet Interface Controller, 8-pin SOIC (S8-8), 0 to 70 degC, Tape and Reel; Manufacturer: Linear Technology; PartNumber: LTC4257CS8#TR; Channels(#): 1; Extended Temp: C, I; I2C Interface: no; Max Power(W): 13; DatasheetVersion: Rev. B; PackageVersion: Rev. G, 03/2012; PackageReference: S8-8; PackageDescription: 8-Pin Plastic Small Outline (Narrow .150 Inch), Body 4.9 x 3.9 mm, Pitch 1.27 mm; Supplier 1: Digi-Key; Supplier Part Number 1: LTC4257CS8#TR-ND; Packing: Tape and Reel; PoE Type: 1; PSE/PD: PD; RoHS: FALSE; Mounting Technology: Surface Mount; ComponentLink1Description: Manufacturer URL; ComponentLink1URL: http://www.linear.com/; ComponentLink2Description: Datasheet; ComponentLink2URL: http://cds.linear.com/docs/en/datasheet/4257fb.pdf; ComponentLink3Description: Package Specification; ComponentLink3URL: http://cds.linear.com/docs/en/packaging/05081610_G_SO8.pdf
footprint LT-S8-8_N (SOIC, 8-Leads, Body 5x4mm, Pitch 1.27mm, IPC Medium Density)
footprint LT-S8-8_L (SOIC, 8-Leads, Body 5x4mm, Pitch 1.27mm, IPC High Density)
footprint LT-S8-8_M (SOIC, 8-Leads, Body 5x4mm, Pitch 1.27mm, IPC Low Density)
pins: 1 NC "No Connect.", 2 RCLASS (in) "External Class Select Input. Used to set the current the LTC4257 maintains during classification. Connect a resistor between RCLASS and VIN (see Table 2).", 3 NC "No Connect.", 4 VIN (power) "Power Input. Tie to system - 48V through the input diode bridge.", 5 VOUT (hiz) "Power Output. Supplies -48V to the PD load through an internal power MOSFET that limits input current. VOUT is high impedance until the input voltage rises above the turn-on UVLO threshold. Above the UVLO threshold the (See Datasheet)", 6 ~{PWRGD} (hiz) "Power Good Output, Open-Drain. Signals that the LTC4257 MOSFET is fully on. Low impedance indicates power is good. P\W\R\G\D\ is high impedance during detection, classification and in the event of a thermal overload. (See Datasheet)", 7 NC "No Connect.", 8 GND (power) "Ground. Tie to system ground and to power return through the input diode bridge."

## LTC4257CS8#TRPBF
designator U?
IEEE 802.3af PD Power Over Ethernet Interface Controller, 8-pin SOIC (S8-8), 0 to 70 degC, Pb-Free, Tape and Reel; Manufacturer: Linear Technology; PartNumber: LTC4257CS8#TRPBF; Channels(#): 1; Extended Temp: C, I; I2C Interface: no; Max Power(W): 13; DatasheetVersion: Rev. B; PackageVersion: Rev. G, 03/2012; PackageReference: S8-8; PackageDescription: 8-Pin Plastic Small Outline (Narrow .150 Inch), Body 4.9 x 3.9 mm, Pitch 1.27 mm; Supplier 1: Digi-Key; Supplier Part Number 1: LTC4257CS8#TRPBF-ND; Packing: Tape and Reel; PoE Type: 1; PSE/PD: PD; RoHS: TRUE; Mounting Technology: Surface Mount; ComponentLink1Description: Manufacturer URL; ComponentLink1URL: http://www.linear.com/; ComponentLink2Description: Datasheet; ComponentLink2URL: http://cds.linear.com/docs/en/datasheet/4257fb.pdf; ComponentLink3Description: Package Specification; ComponentLink3URL: http://cds.linear.com/docs/en/packaging/05081610_G_SO8.pdf
footprint LT-S8-8_N (SOIC, 8-Leads, Body 5x4mm, Pitch 1.27mm, IPC Medium Density)
footprint LT-S8-8_L (SOIC, 8-Leads, Body 5x4mm, Pitch 1.27mm, IPC High Density)
footprint LT-S8-8_M (SOIC, 8-Leads, Body 5x4mm, Pitch 1.27mm, IPC Low Density)
pins: 1 NC "No Connect.", 2 RCLASS (in) "External Class Select Input. Used to set the current the LTC4257 maintains during classification. Connect a resistor between RCLASS and VIN (see Table 2).", 3 NC "No Connect.", 4 VIN (power) "Power Input. Tie to system - 48V through the input diode bridge.", 5 VOUT (hiz) "Power Output. Supplies -48V to the PD load through an internal power MOSFET that limits input current. VOUT is high impedance until the input voltage rises above the turn-on UVLO threshold. Above the UVLO threshold the (See Datasheet)", 6 ~{PWRGD} (hiz) "Power Good Output, Open-Drain. Signals that the LTC4257 MOSFET is fully on. Low impedance indicates power is good. P\W\R\G\D\ is high impedance during detection, classification and in the event of a thermal overload. (See Datasheet)", 7 NC "No Connect.", 8 GND (power) "Ground. Tie to system ground and to power return through the input diode bridge."

## LTC4257CS8-1
designator U?
IEEE 802.3af PD Power Over Ethernet Interface Controller with Dual Current Limit, 8-pin SOIC (S8-8), 0 to 70 degC; Manufacturer: Linear Technology; PartNumber: LTC4257CS8-1; Channels(#): 1; Extended Temp: C, I; I2C Interface: no; Max Power(W): 13; DatasheetVersion: Rev. B; PackageVersion: Rev. G, 03/2012; PackageReference: S8-8; PackageDescription: 8-Pin Plastic Small Outline (Narrow .150 Inch), Body 4.9 x 3.9 mm, Pitch 1.27 mm; Supplier 1: Digi-Key; Supplier Part Number 1: LTC4257CS8-1-ND; PoE Type: 1; PSE/PD: PD; RoHS: FALSE; Mounting Technology: Surface Mount; ComponentLink1Description: Manufacturer URL; ComponentLink1URL: http://www.linear.com/; ComponentLink2Description: Datasheet; ComponentLink2URL: http://cds.linear.com/docs/en/datasheet/42571fb.pdf; ComponentLink3Description: Package Specification; ComponentLink3URL: http://cds.linear.com/docs/en/packaging/05081610_G_SO8.pdf
footprint LT-S8-8_N (SOIC, 8-Leads, Body 5x4mm, Pitch 1.27mm, IPC Medium Density)
footprint LT-S8-8_L (SOIC, 8-Leads, Body 5x4mm, Pitch 1.27mm, IPC High Density)
footprint LT-S8-8_M (SOIC, 8-Leads, Body 5x4mm, Pitch 1.27mm, IPC Low Density)
pins: 1 NC "No Internal Connection.", 2 RCLASS (in) "Class Select Input. Used to set the current value the LTC4257-1 maintains during classification. Connect a resistor between RCLASS and VIN (see Table 2).", 3 NC "No Internal Connection.", 4 VIN (power) "Power Input. Tie to system -48V through the input diode bridge.", 5 VOUT (hiz) "Power Output. Supplies -48V to the PD load through an internal power MOSFET that limits input current. VOUT is high impedance until the input voltage rises above the turn-on UVLO threshold. Above the UVLO threshold the (See Datasheet)", 6 ~{PWRGD} (hiz) "Power Good Output, Open-Drain. Signals that the LTC4257 MOSFET is fully on. Low impedance indicates power is good. P\W\R\G\D\ is high impedance during detection, classification and in the event of a thermal overload. (See Datasheet)", 7 SIGDISA (in) "Signature Disable Input. Allows the PD to command the LTC4257-1 to present an invalid signature resistance and to remain inactive. Connecting SIGDISA to GND lowers the signature resistance to an invalid value and disables (See Datasheet)", 8 GND (power) "Ground. Tie to system ground and to power return through the input diode bridge."

## LTC4257CS8-1#PBF
designator U?
IEEE 802.3af PD Power Over Ethernet Interface Controller with Dual Current Limit, 8-pin SOIC (S8-8), 0 to 70 degC, Pb-Free; Manufacturer: Linear Technology; PartNumber: LTC4257CS8-1#PBF; Channels(#): 1; Extended Temp: C, I; I2C Interface: no; Max Power(W): 13; DatasheetVersion: Rev. B; PackageVersion: Rev. G, 03/2012; PackageReference: S8-8; PackageDescription: 8-Pin Plastic Small Outline (Narrow .150 Inch), Body 4.9 x 3.9 mm, Pitch 1.27 mm; Supplier 1: Digi-Key; Supplier Part Number 1: LTC4257CS8-1#PBF-ND; Supplier 2: Newark; Supplier Part Number 2: 56M9069; PoE Type: 1; PSE/PD: PD; RoHS: TRUE; Mounting Technology: Surface Mount; ComponentLink1Description: Manufacturer URL; ComponentLink1URL: http://www.linear.com/; ComponentLink2Description: Datasheet; ComponentLink2URL: http://cds.linear.com/docs/en/datasheet/42571fb.pdf; ComponentLink3Description: Package Specification; ComponentLink3URL: http://cds.linear.com/docs/en/packaging/05081610_G_SO8.pdf
footprint LT-S8-8_N (SOIC, 8-Leads, Body 5x4mm, Pitch 1.27mm, IPC Medium Density)
footprint LT-S8-8_L (SOIC, 8-Leads, Body 5x4mm, Pitch 1.27mm, IPC High Density)
footprint LT-S8-8_M (SOIC, 8-Leads, Body 5x4mm, Pitch 1.27mm, IPC Low Density)
pins: 1 NC "No Internal Connection.", 2 RCLASS (in) "Class Select Input. Used to set the current value the LTC4257-1 maintains during classification. Connect a resistor between RCLASS and VIN (see Table 2).", 3 NC "No Internal Connection.", 4 VIN (power) "Power Input. Tie to system -48V through the input diode bridge.", 5 VOUT (hiz) "Power Output. Supplies -48V to the PD load through an internal power MOSFET that limits input current. VOUT is high impedance until the input voltage rises above the turn-on UVLO threshold. Above the UVLO threshold the (See Datasheet)", 6 ~{PWRGD} (hiz) "Power Good Output, Open-Drain. Signals that the LTC4257 MOSFET is fully on. Low impedance indicates power is good. P\W\R\G\D\ is high impedance during detection, classification and in the event of a thermal overload. (See Datasheet)", 7 SIGDISA (in) "Signature Disable Input. Allows the PD to command the LTC4257-1 to present an invalid signature resistance and to remain inactive. Connecting SIGDISA to GND lowers the signature resistance to an invalid value and disables (See Datasheet)", 8 GND (power) "Ground. Tie to system ground and to power return through the input diode bridge."

## LTC4257CS8-1#TR
designator U?
IEEE 802.3af PD Power Over Ethernet Interface Controller with Dual Current Limit, 8-pin SOIC (S8-8), 0 to 70 degC, Tape and Reel; Manufacturer: Linear Technology; PartNumber: LTC4257CS8-1#TR; Channels(#): 1; Extended Temp: C, I; I2C Interface: no; Max Power(W): 13; DatasheetVersion: Rev. B; PackageVersion: Rev. G, 03/2012; PackageReference: S8-8; PackageDescription: 8-Pin Plastic Small Outline (Narrow .150 Inch), Body 4.9 x 3.9 mm, Pitch 1.27 mm; Supplier 1: Digi-Key; Supplier Part Number 1: LTC4257CS8-1#TR-ND; Packing: Tape and Reel; PoE Type: 1; PSE/PD: PD; RoHS: FALSE; Mounting Technology: Surface Mount; ComponentLink1Description: Manufacturer URL; ComponentLink1URL: http://www.linear.com/; ComponentLink2Description: Datasheet; ComponentLink2URL: http://cds.linear.com/docs/en/datasheet/42571fb.pdf; ComponentLink3Description: Package Specification; ComponentLink3URL: http://cds.linear.com/docs/en/packaging/05081610_G_SO8.pdf
footprint LT-S8-8_N (SOIC, 8-Leads, Body 5x4mm, Pitch 1.27mm, IPC Medium Density)
footprint LT-S8-8_L (SOIC, 8-Leads, Body 5x4mm, Pitch 1.27mm, IPC High Density)
footprint LT-S8-8_M (SOIC, 8-Leads, Body 5x4mm, Pitch 1.27mm, IPC Low Density)
pins: 1 NC "No Internal Connection.", 2 RCLASS (in) "Class Select Input. Used to set the current value the LTC4257-1 maintains during classification. Connect a resistor between RCLASS and VIN (see Table 2).", 3 NC "No Internal Connection.", 4 VIN (power) "Power Input. Tie to system -48V through the input diode bridge.", 5 VOUT (hiz) "Power Output. Supplies -48V to the PD load through an internal power MOSFET that limits input current. VOUT is high impedance until the input voltage rises above the turn-on UVLO threshold. Above the UVLO threshold the (See Datasheet)", 6 ~{PWRGD} (hiz) "Power Good Output, Open-Drain. Signals that the LTC4257 MOSFET is fully on. Low impedance indicates power is good. P\W\R\G\D\ is high impedance during detection, classification and in the event of a thermal overload. (See Datasheet)", 7 SIGDISA (in) "Signature Disable Input. Allows the PD to command the LTC4257-1 to present an invalid signature resistance and to remain inactive. Connecting SIGDISA to GND lowers the signature resistance to an invalid value and disables (See Datasheet)", 8 GND (power) "Ground. Tie to system ground and to power return through the input diode bridge."